# EAGLE library part KF_45_8PIN_CORR (library OrangeWood)
KF Connector Pitch : 9.5 mm Diameter of Pin : 1.4 mm Above dimensions have been measured practically .
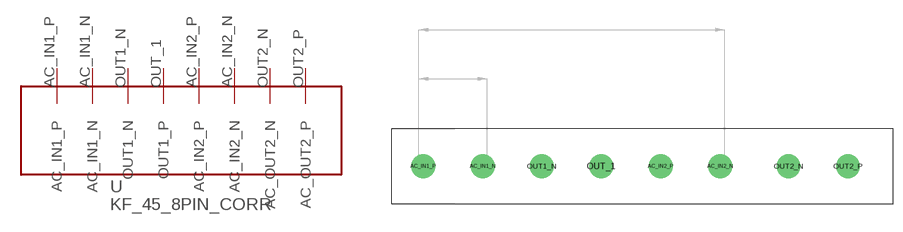
[diagram p1: symbol with the pads of KF-45; footprint KF-45]

Designator prefix -

## KF_45_8PIN_CORR  [KF-45]
AC_IN1_N  AC_IN1_N
AC_IN1_P  AC_IN1_P
AC_IN2_N  AC_IN2_N
AC_IN2_P  AC_IN2_P
OUT1_N  OUT1_N
OUT2_N  AC_OUT2_N
OUT2_P  AC_OUT2_P
OUT_1  OUT1_P

## Footprint KF-45 (pad centres in mm)
Part No KF-45 ( Drawn as per dervice handed over ) ,This is one Block of the KF-45 ( It contains 6 such block , each block will be placed seperately due to the current limitation )
drill 1.4 pad 3.81: AC_IN1_N 9.5,0; AC_IN1_P 0,0; AC_IN2_N 47.4,0; AC_IN2_P 37.9,0; OUT1_N 18.9,0; OUT2_N 58.3,0; OUT2_P 67.8,0; OUT_1 28.4,0